# EAGLE library part BR-C30A (library zz-m-pad-2.1)
Blue Radio's BR-C30 Class1, Class2, and Class3 Bluetooth® ver1.2 OUTLINE: AT HOME. AT WORK. ON THE ROAD. USING BLUETOOTH WIRELESS TECHNOLOGY MEANS TOTAL FREEDOM FROM THE CONSTRAINTS AND CLUTTER OF WIRES IN YOUR LIFE. Wireless communications module certified to Bluetooth® v1.2. Two types of models: With/without ceramic RF chip antenna provided. FCC, CE, Industry Canada, RoHS, and Bluetooth® certified ISM 2.4GHz band module. UART data, and PCM audio interfaces available to various applications. Includes integrated software stack, profiles, and AT modem like commands. Embedded Bluetooth Stack Profiles Included (requires no host MCU stack): SPP, DUN, LAN, PAN, Headset, Audio Gateway, FTP, GAP SDP, RFCOMM, and L2CAP protocols. FEATURES: The BlueRadios serial radio modems can be configured, commanded, and controlled through simple ASCII strings over the Bluetooth RF link or directly through the hardware serial UART. Dedicated PCM voice channel for audio applications UART baud rate speeds: 1200bps up to 921.6Kbps, and customized +100 meter (330 feet) distance Software adjustable transmitter power from short to long range applications Low power consumption (120mA TX, 40mA RX, 2mA idle mode, and 90uA deep sleep) Small-form factor SMT radio modem Self-discovery and network equipped multi-points Operating temperature range: -40~+70ºC. Secure and robust communication link - FHSS (Frequency Hopping Spread Spectrum) - Encryption and 16 alphanumeric Personal Identification Number (PIN) - Error correction schemes for guaranteed packet delivery Please send any comments to: messi@users.sourceforge.net
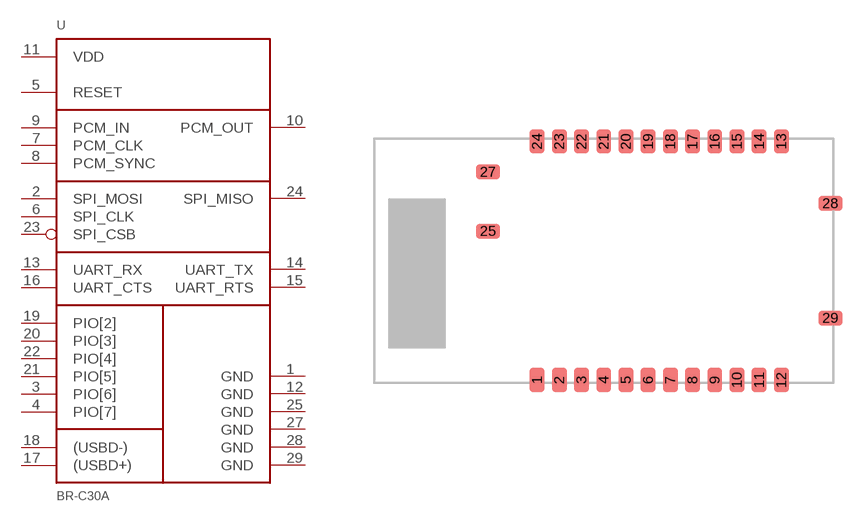
[diagram p86: symbol with the pads of BR-C30A; footprint BR-C30A]

Designator prefix U

## BR-C30A  [BR-C30A]
1  GND  pwr
2  SPI_MOSI  in
3  PIO[6]
4  PIO[7]
5  RESET  in
6  SPI_CLK  in
7  PCM_CLK
8  PCM_SYNC
9  PCM_IN  in
10  PCM_OUT  out
11  VDD  pwr
12  GND  pwr
13  UART_RX  in
14  UART_TX  out
15  UART_RTS  out
16  UART_CTS  in
17  (USBD+)
18  (USBD-)
19  PIO[2]
20  PIO[3]
21  PIO[5]
22  PIO[4]
23  SPI_CSB  in
24  SPI_MISO  out
25  GND  pwr
27  GND  pwr
28  GND  pwr
29  GND  pwr

## Footprint BR-C30A (pad centres in mm)
smd 0.8 x 1.3: 1 -3.6,-6.45; 2 -2.4,-6.45; 3 -1.2,-6.45; 4 0,-6.45; 5 1.2,-6.45; 6 2.4,-6.45; 7 3.6,-6.45; 8 4.8,-6.45; 9 6,-6.45; 10 7.2,-6.45; 11 8.4,-6.45; 12 9.6,-6.45; 13 9.6,6.45; 14 8.4,6.45; 15 7.2,6.45; 16 6,6.45; 17 4.8,6.45; 18 3.6,6.45; 19 2.4,6.45; 20 1.2,6.45; 21 0,6.45; 22 -1.2,6.45; 23 -2.4,6.45; 24 -3.6,6.45
smd 1.3 x 0.8: 25 -6.25,1.6; 27 -6.25,4.8; 28 12.25,3.1; 29 12.25,-3.1